# Altium schematic symbol library chargeFast.SchLib: 1 symbol
Pins are listed as number, name and electrical type; pins without a type are passive.

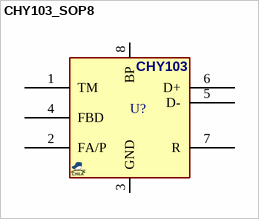
[diagram p0: symbol CHY103_SOP8]

## CHY103_SOP8
designator U?, comment CHY103  (value not drawn)
Quick Charge 3.0; MANF_P#: CHY103D; MANF: Power Integrations; PARAM2: 3.1~6.3VBP; VALUE: CHY103
footprint SO_8 (SOP-8, 5x3.9mm body 1.27mm pitch, SOT96-1, M08A, S8, SOIC8, VO8, MS-012AA(JEDEC), R-8, 8S2, VOG8)
pins: 1 TM, 2 FA/P, 3 GND, 4 FBD, 5 D-, 6 D+, 7 R, 8 BP